# Altium footprint library IPC-7355 QFP_Sq_80P_Side_M.PcbLib: 5 footprints
Each footprint in its own frame and in the unit in brackets; x right, y up, seen from the top. Pads: shape width x height; smd on the part's side, far side on the other; paste and mask are expansions set on the pad; w line width, h text height; cw(c..) or ccw(c..) is an arc to the next point about the centre after c.
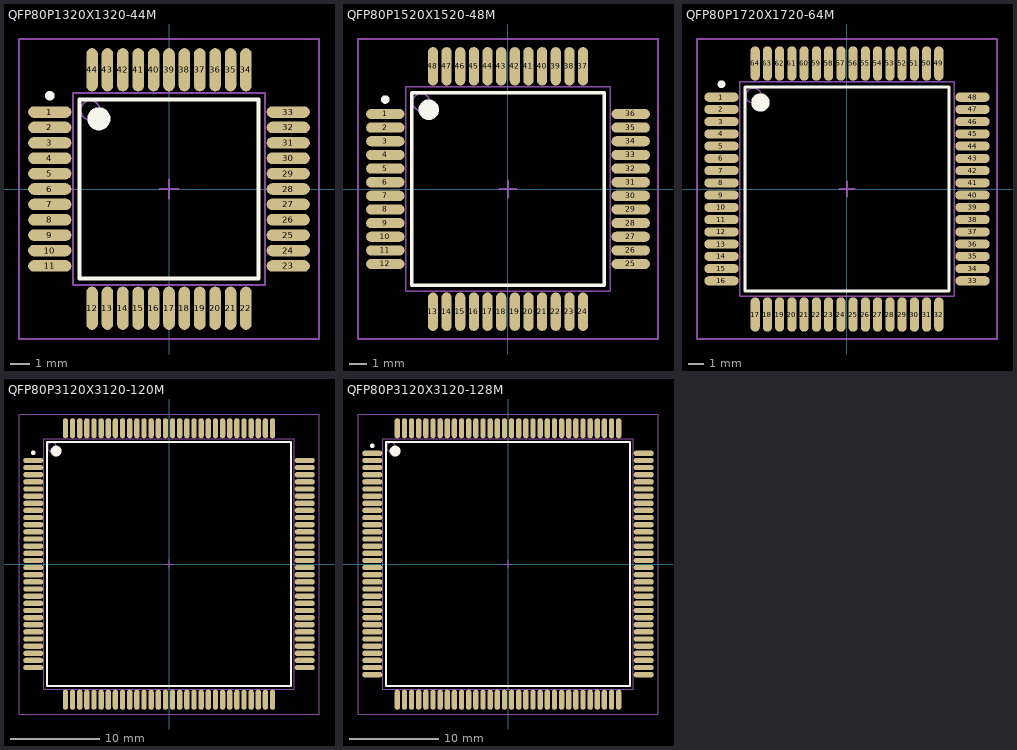
[diagram p0: the footprints below, top view; thin cyan lines are the x and y axes]

## QFP80P1320X1320-44M [mm] "QFP, 44-Leads, Body 10x10mm, Pitch 0.8mm, IPC Low Density"
height 2.45
pads (44):
  oval 2.25x0.6 smd: 1(-6.2,4) 2(-6.2,3.2) 3(-6.2,2.4) 4(-6.2,1.6) 5(-6.2,0.8) 6(-6.2,0) 7(-6.2,-0.8) 8(-6.2,-1.6) 9(-6.2,-2.4) 10(-6.2,-3.2) 11(-6.2,-4) 23(6.2,-4) 24(6.2,-3.2) 25(6.2,-2.4) 26(6.2,-1.6) 27(6.2,-0.8) 28(6.2,0) 29(6.2,0.8) 30(6.2,1.6) 31(6.2,2.4) 32(6.2,3.2) 33(6.2,4)
  oval 0.6x2.25 smd: 12(-4,-6.2) 13(-3.2,-6.2) 14(-2.4,-6.2) 15(-1.6,-6.2) 16(-0.8,-6.2) 17(0,-6.2) 18(0.8,-6.2) 19(1.6,-6.2) 20(2.4,-6.2) 21(3.2,-6.2) 22(4,-6.2) 34(4,6.2) 35(3.2,6.2) 36(2.4,6.2) 37(1.6,6.2) 38(0.8,6.2) 39(0,6.2) 40(-0.8,6.2) 41(-1.6,6.2) 42(-2.4,6.2) 43(-3.2,6.2) 44(-4,6.2)
Top Overlay:
  circle w0.6: c-3.65,3.65 r0.3
  circle w0.25: c-6.2,4.85 r0.125
  lines w0.2: -4.65,-4.65 4.65,-4.65 4.65,4.65 -4.65,4.65 -4.65,-4.65
Mechanical 13:
  circle w0.1: c-4.1,4.1 r0.5
  lines w0.1: -5,-5 5,-5 5,5 -5,5 -5,-5
Mechanical 15:
  lines w0.1: -0.5,0 0.5,0 ; 0,-0.5 0,0.5 ; -7.8,-7.8 7.8,-7.8 7.8,7.8 -7.8,7.8 -7.8,-7.8
3D body: height 2.45, standoff 0, extent -5,-5 5,5

## QFP80P1520X1520-48M [mm] "QFP, 48-Leads, Body 12x12mm, Pitch 0.8mm, IPC Low Density"
height 2.45
pads (48):
  oval 2.25x0.6 smd: 1(-7.2,4.4) 2(-7.2,3.6) 3(-7.2,2.8) 4(-7.2,2) 5(-7.2,1.2) 6(-7.2,0.4) 7(-7.2,-0.4) 8(-7.2,-1.2) 9(-7.2,-2) 10(-7.2,-2.8) 11(-7.2,-3.6) 12(-7.2,-4.4) 25(7.2,-4.4) 26(7.2,-3.6) 27(7.2,-2.8) 28(7.2,-2) 29(7.2,-1.2) 30(7.2,-0.4) 31(7.2,0.4) 32(7.2,1.2) 33(7.2,2) 34(7.2,2.8) 35(7.2,3.6) 36(7.2,4.4)
  oval 0.6x2.25 smd: 13(-4.4,-7.2) 14(-3.6,-7.2) 15(-2.8,-7.2) 16(-2,-7.2) 17(-1.2,-7.2) 18(-0.4,-7.2) 19(0.4,-7.2) 20(1.2,-7.2) 21(2,-7.2) 22(2.8,-7.2) 23(3.6,-7.2) 24(4.4,-7.2) 37(4.4,7.2) 38(3.6,7.2) 39(2.8,7.2) 40(2,7.2) 41(1.2,7.2) 42(0.4,7.2) 43(-0.4,7.2) 44(-1.2,7.2) 45(-2,7.2) 46(-2.8,7.2) 47(-3.6,7.2) 48(-4.4,7.2)
Top Overlay:
  circle w0.6: c-4.65,4.65 r0.3
  circle w0.25: c-7.2,5.25 r0.125
  lines w0.2: -5.65,-5.65 5.65,-5.65 5.65,5.65 -5.65,5.65 -5.65,-5.65
Mechanical 13:
  circle w0.1: c-5.1,5.1 r0.5
  lines w0.1: -6,-6 6,-6 6,6 -6,6 -6,-6
Mechanical 15:
  lines w0.1: -0.5,0 0.5,0 ; 0,-0.5 0,0.5 ; -8.8,-8.8 8.8,-8.8 8.8,8.8 -8.8,8.8 -8.8,-8.8
3D body: height 2.45, standoff 0, extent -6,-6 6,6

## QFP80P1720X1720-64M [mm] "QFP, 64-Leads, Body 14x14mm, Pitch 0.8mm, IPC Low Density"
height 2.45
pads (64):
  oval 2.25x0.6 smd: 1(-8.2,6) 2(-8.2,5.2) 3(-8.2,4.4) 4(-8.2,3.6) 5(-8.2,2.8) 6(-8.2,2) 7(-8.2,1.2) 8(-8.2,0.4) 9(-8.2,-0.4) 10(-8.2,-1.2) 11(-8.2,-2) 12(-8.2,-2.8) 13(-8.2,-3.6) 14(-8.2,-4.4) 15(-8.2,-5.2) 16(-8.2,-6) 33(8.2,-6) 34(8.2,-5.2) 35(8.2,-4.4) 36(8.2,-3.6) 37(8.2,-2.8) 38(8.2,-2) 39(8.2,-1.2) 40(8.2,-0.4) 41(8.2,0.4) 42(8.2,1.2) 43(8.2,2) 44(8.2,2.8) 45(8.2,3.6) 46(8.2,4.4) 47(8.2,5.2) 48(8.2,6)
  oval 0.6x2.25 smd: 17(-6,-8.2) 18(-5.2,-8.2) 19(-4.4,-8.2) 20(-3.6,-8.2) 21(-2.8,-8.2) 22(-2,-8.2) 23(-1.2,-8.2) 24(-0.4,-8.2) 25(0.4,-8.2) 26(1.2,-8.2) 27(2,-8.2) 28(2.8,-8.2) 29(3.6,-8.2) 30(4.4,-8.2) 31(5.2,-8.2) 32(6,-8.2) 49(6,8.2) 50(5.2,8.2) 51(4.4,8.2) 52(3.6,8.2) 53(2.8,8.2) 54(2,8.2) 55(1.2,8.2) 56(0.4,8.2) 57(-0.4,8.2) 58(-1.2,8.2) 59(-2,8.2) 60(-2.8,8.2) 61(-3.6,8.2) 62(-4.4,8.2) 63(-5.2,8.2) 64(-6,8.2)
Top Overlay:
  circle w0.6: c-5.65,5.65 r0.3
  circle w0.25: c-8.2,6.85 r0.125
  lines w0.2: -6.65,-6.65 6.65,-6.65 6.65,6.65 -6.65,6.65 -6.65,-6.65
Mechanical 13:
  circle w0.1: c-6.1,6.1 r0.5
  lines w0.1: -7,-7 7,-7 7,7 -7,7 -7,-7
Mechanical 15:
  lines w0.1: -0.5,0 0.5,0 ; 0,-0.5 0,0.5 ; -9.8,-9.8 9.8,-9.8 9.8,9.8 -9.8,9.8 -9.8,-9.8
3D body: height 2.45, standoff 0, extent -7,-7 7,7

## QFP80P3120X3120-120M [mm] "QFP, 120-Leads, Body 28x28mm, Pitch 0.8mm, IPC Low Density"
height 3.75
pads (120):
  oval 2.25x0.6 smd: 1(-15.2,11.6) 2(-15.2,10.8) 3(-15.2,10) 4(-15.2,9.2) 5(-15.2,8.4) 6(-15.2,7.6) 7(-15.2,6.8) 8(-15.2,6) 9(-15.2,5.2) 10(-15.2,4.4) 11(-15.2,3.6) 12(-15.2,2.8) 13(-15.2,2) 14(-15.2,1.2) 15(-15.2,0.4) 16(-15.2,-0.4) 17(-15.2,-1.2) 18(-15.2,-2) 19(-15.2,-2.8) 20(-15.2,-3.6) 21(-15.2,-4.4) 22(-15.2,-5.2) 23(-15.2,-6) 24(-15.2,-6.8) 25(-15.2,-7.6) 26(-15.2,-8.4) 27(-15.2,-9.2) 28(-15.2,-10) 29(-15.2,-10.8) 30(-15.2,-11.6) 61(15.2,-11.6) 62(15.2,-10.8) 63(15.2,-10) 64(15.2,-9.2) 65(15.2,-8.4) 66(15.2,-7.6) 67(15.2,-6.8) 68(15.2,-6) 69(15.2,-5.2) 70(15.2,-4.4) 71(15.2,-3.6) 72(15.2,-2.8) 73(15.2,-2) 74(15.2,-1.2) 75(15.2,-0.4) 76(15.2,0.4) 77(15.2,1.2) 78(15.2,2) 79(15.2,2.8) 80(15.2,3.6) 81(15.2,4.4) 82(15.2,5.2) 83(15.2,6) 84(15.2,6.8) 85(15.2,7.6) 86(15.2,8.4) 87(15.2,9.2) 88(15.2,10) 89(15.2,10.8) 90(15.2,11.6)
  oval 0.6x2.25 smd: 31(-11.6,-15.2) 32(-10.8,-15.2) 33(-10,-15.2) 34(-9.2,-15.2) 35(-8.4,-15.2) 36(-7.6,-15.2) 37(-6.8,-15.2) 38(-6,-15.2) 39(-5.2,-15.2) 40(-4.4,-15.2) 41(-3.6,-15.2) 42(-2.8,-15.2) 43(-2,-15.2) 44(-1.2,-15.2) 45(-0.4,-15.2) 46(0.4,-15.2) 47(1.2,-15.2) 48(2,-15.2) 49(2.8,-15.2) 50(3.6,-15.2) 51(4.4,-15.2) 52(5.2,-15.2) 53(6,-15.2) 54(6.8,-15.2) 55(7.6,-15.2) 56(8.4,-15.2) 57(9.2,-15.2) 58(10,-15.2) 59(10.8,-15.2) 60(11.6,-15.2) 91(11.6,15.2) 92(10.8,15.2) 93(10,15.2) 94(9.2,15.2) 95(8.4,15.2) 96(7.6,15.2) 97(6.8,15.2) 98(6,15.2) 99(5.2,15.2) 100(4.4,15.2) 101(3.6,15.2) 102(2.8,15.2) 103(2,15.2) 104(1.2,15.2) 105(0.4,15.2) 106(-0.4,15.2) 107(-1.2,15.2) 108(-2,15.2) 109(-2.8,15.2) 110(-3.6,15.2) 111(-4.4,15.2) 112(-5.2,15.2) 113(-6,15.2) 114(-6.8,15.2) 115(-7.6,15.2) 116(-8.4,15.2) 117(-9.2,15.2) 118(-10,15.2) 119(-10.8,15.2) 120(-11.6,15.2)
Top Overlay:
  circle w0.6: c-12.65,12.65 r0.3
  circle w0.25: c-15.2,12.45 r0.125
  lines w0.2: -13.65,-13.65 13.65,-13.65 13.65,13.65 -13.65,13.65 -13.65,-13.65
Mechanical 13:
  circle w0.1: c-13.1,13.1 r0.5
  lines w0.1: -14,-14 14,-14 14,14 -14,14 -14,-14
Mechanical 15:
  lines w0.1: -0.5,0 0.5,0 ; 0,-0.5 0,0.5 ; -16.8,-16.8 16.8,-16.8 16.8,16.8 -16.8,16.8 -16.8,-16.8
3D body: height 3.75, standoff 0, extent -14,-14 14,14

## QFP80P3120X3120-128M [mm] "QFP, 128-Leads, Body 28x28mm, Pitch 0.8mm, IPC Low Density"
height 3.75
pads (128):
  oval 2.25x0.6 smd: 1(-15.2,12.4) 2(-15.2,11.6) 3(-15.2,10.8) 4(-15.2,10) 5(-15.2,9.2) 6(-15.2,8.4) 7(-15.2,7.6) 8(-15.2,6.8) 9(-15.2,6) 10(-15.2,5.2) 11(-15.2,4.4) 12(-15.2,3.6) 13(-15.2,2.8) 14(-15.2,2) 15(-15.2,1.2) 16(-15.2,0.4) 17(-15.2,-0.4) 18(-15.2,-1.2) 19(-15.2,-2) 20(-15.2,-2.8) 21(-15.2,-3.6) 22(-15.2,-4.4) 23(-15.2,-5.2) 24(-15.2,-6) 25(-15.2,-6.8) 26(-15.2,-7.6) 27(-15.2,-8.4) 28(-15.2,-9.2) 29(-15.2,-10) 30(-15.2,-10.8) 31(-15.2,-11.6) 32(-15.2,-12.4) 65(15.2,-12.4) 66(15.2,-11.6) 67(15.2,-10.8) 68(15.2,-10) 69(15.2,-9.2) 70(15.2,-8.4) 71(15.2,-7.6) 72(15.2,-6.8) 73(15.2,-6) 74(15.2,-5.2) 75(15.2,-4.4) 76(15.2,-3.6) 77(15.2,-2.8) 78(15.2,-2) 79(15.2,-1.2) 80(15.2,-0.4) 81(15.2,0.4) 82(15.2,1.2) 83(15.2,2) 84(15.2,2.8) 85(15.2,3.6) 86(15.2,4.4) 87(15.2,5.2) 88(15.2,6) 89(15.2,6.8) 90(15.2,7.6) 91(15.2,8.4) 92(15.2,9.2) 93(15.2,10) 94(15.2,10.8) 95(15.2,11.6) 96(15.2,12.4)
  oval 0.6x2.25 smd: 33(-12.4,-15.2) 34(-11.6,-15.2) 35(-10.8,-15.2) 36(-10,-15.2) 37(-9.2,-15.2) 38(-8.4,-15.2) 39(-7.6,-15.2) 40(-6.8,-15.2) 41(-6,-15.2) 42(-5.2,-15.2) 43(-4.4,-15.2) 44(-3.6,-15.2) 45(-2.8,-15.2) 46(-2,-15.2) 47(-1.2,-15.2) 48(-0.4,-15.2) 49(0.4,-15.2) 50(1.2,-15.2) 51(2,-15.2) 52(2.8,-15.2) 53(3.6,-15.2) 54(4.4,-15.2) 55(5.2,-15.2) 56(6,-15.2) 57(6.8,-15.2) 58(7.6,-15.2) 59(8.4,-15.2) 60(9.2,-15.2) 61(10,-15.2) 62(10.8,-15.2) 63(11.6,-15.2) 64(12.4,-15.2) 97(12.4,15.2) 98(11.6,15.2) 99(10.8,15.2) 100(10,15.2) 101(9.2,15.2) 102(8.4,15.2) 103(7.6,15.2) 104(6.8,15.2) 105(6,15.2) 106(5.2,15.2) 107(4.4,15.2) 108(3.6,15.2) 109(2.8,15.2) 110(2,15.2) 111(1.2,15.2) 112(0.4,15.2) 113(-0.4,15.2) 114(-1.2,15.2) 115(-2,15.2) 116(-2.8,15.2) 117(-3.6,15.2) 118(-4.4,15.2) 119(-5.2,15.2) 120(-6,15.2) 121(-6.8,15.2) 122(-7.6,15.2) 123(-8.4,15.2) 124(-9.2,15.2) 125(-10,15.2) 126(-10.8,15.2) 127(-11.6,15.2) 128(-12.4,15.2)
Top Overlay:
  circle w0.6: c-12.65,12.65 r0.3
  circle w0.25: c-15.2,13.25 r0.125
  lines w0.2: -13.65,-13.65 13.65,-13.65 13.65,13.65 -13.65,13.65 -13.65,-13.65
Mechanical 13:
  circle w0.1: c-13.1,13.1 r0.5
  lines w0.1: -14,-14 14,-14 14,14 -14,14 -14,-14
Mechanical 15:
  lines w0.1: -0.5,0 0.5,0 ; 0,-0.5 0,0.5 ; -16.8,-16.8 16.8,-16.8 16.8,16.8 -16.8,16.8 -16.8,-16.8
3D body: height 3.75, standoff 0, extent -14,-14 14,14